# Altium integrated library Dallas Microcontroller 8-Bit.IntLib: 50 symbols (part 2 of 2)
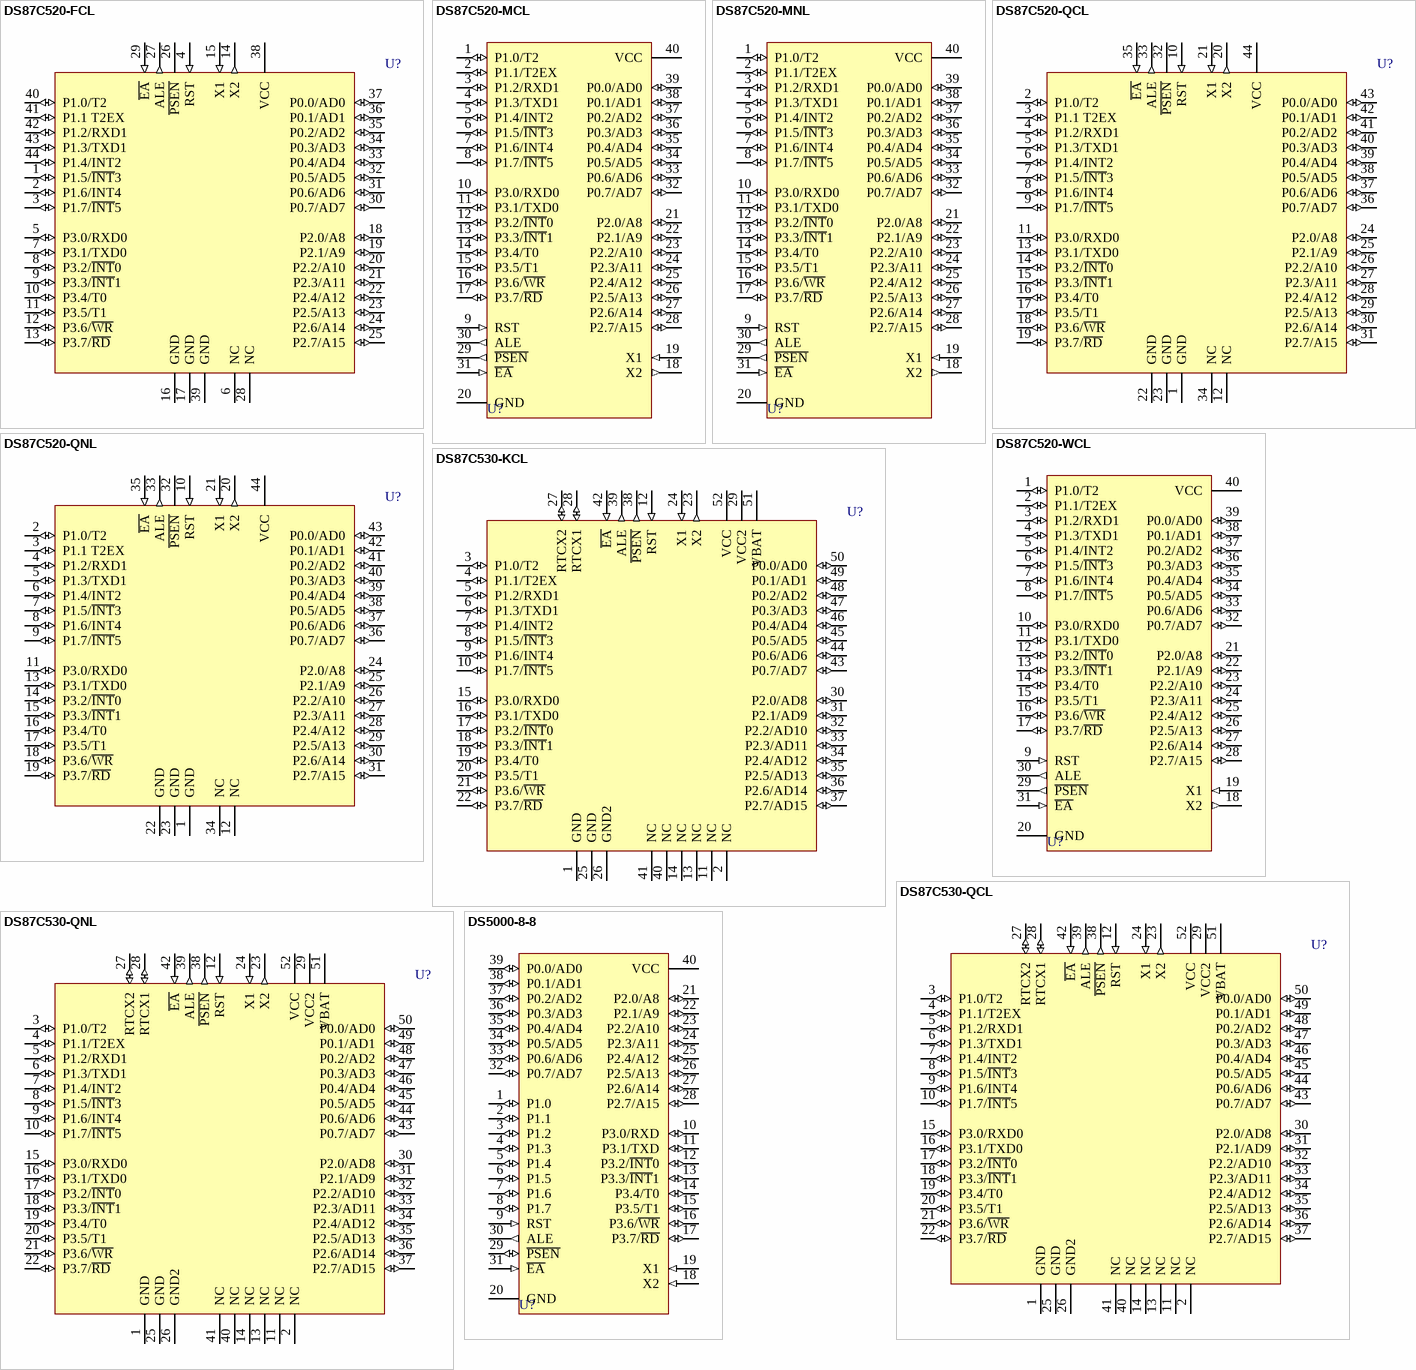
[diagram p5: symbols DS87C520-FCL to DS5000-8-8]

## DS87C530-QCL
designator U?
EPROM/ROM Micro with Real-Time Clock; Note: Pin numbers 2, 11, 13, 14, 40 and 41 are Not Connected (NC); Published: 13-Oct-2000; LatestRevisionDate: 13-Apr-2006; LatestRevisionNote: IPC-7351 Footprint Added.; DatasheetVersion: 8-Jul-1998; PackageVersion: Jul-1998; PackageReference: PLCC52; Publisher: Altium Limited; PackageDescription: 52-Pin Leaded Chip Carrier 1.27 mm Pitch; Code_IPC: PLCC-52; ComponentLink1Description: Manufacturer Link; ComponentLink1URL: http://www.maxim-ic.com/; ComponentLink2Description: Datasheet; ComponentLink2URL: http://pdfserv.maxim-ic.com/en/ds/DS87C530.pdf; ComponentLink3Description: Discontinuation Notice; ComponentLink3URL: http://www.maxim-ic.com/qa/pdfs/non-obsolescence-letter.pdf
footprint PLCC52_N (Leaded Chip Carrier, 52-Leads, Body 19x19mm, Pitch 1.27mm, IPC Medium Density)
footprint PLCC52_L (Leaded Chip Carrier, 52-Leads, Body 19x19mm, Pitch 1.27mm, IPC High Density)
footprint PLCC52_M (Leaded Chip Carrier, 52-Leads, Body 19x19mm, Pitch 1.27mm, IPC Low Density)
3D model DS87C530-PLCC52 (52-Pin Leaded Chip Carrier 1.27 mm Pitch)
pins: 1 GND (power), 2 NC, 3 P1.0/T2 (io), 4 P1.1/T2EX (io), 5 P1.2/RXD1 (io), 6 P1.3/TXD1 (io), 7 P1.4/INT2 (io), 8 P1.5/~{INT}3 (io), 9 P1.6/INT4 (io), 10 P1.7/~{INT}5 (io), 11 NC, 12 RST (in), 13 NC, 14 NC, 15 P3.0/RXD0 (io), 16 P3.1/TXD0 (io), 17 P3.2/~{INT}0 (io), 18 P3.3/~{INT}1 (io), 19 P3.4/T0 (io), 20 P3.5/T1 (io), 21 P3.6/~{WR} (io), 22 P3.7/~{RD} (io), 23 X2 (out), 24 X1 (in), 25 GND (power), 26 GND2 (power), 27 RTCX2 (io), 28 RTCX1 (io), 29 VCC2 (power), 30 P2.0/AD8 (io), 31 P2.1/AD9 (io), 32 P2.2/AD10 (io), 33 P2.3/AD11 (io), 34 P2.4/AD12 (io), 35 P2.5/AD13 (io), 36 P2.6/AD14 (io), 37 P2.7/AD15 (io), 38 ~{PSEN} (out), 39 ALE (out), 40 NC, 41 NC, 42 ~{EA} (in), 43 P0.7/AD7 (io), 44 P0.6/AD6 (io), 45 P0.5/AD5 (io), 46 P0.4/AD4 (io), 47 P0.3/AD3 (io), 48 P0.2/AD2 (io), 49 P0.1/AD1 (io), 50 P0.0/AD0 (io), 51 VBAT (power), 52 VCC (power)

## DS87C530-QNL
designator U?
EPROM/ROM Micro with Real-Time Clock; Note: Pin numbers 2, 11, 13, 14, 40 and 41 are Not Connected (NC); Published: 13-Oct-2000; LatestRevisionDate: 13-Apr-2006; LatestRevisionNote: IPC-7351 Footprint Added.; DatasheetVersion: 8-Jul-1998; PackageVersion: Jul-1998; PackageReference: PLCC52; Publisher: Altium Limited; PackageDescription: 52-Pin Leaded Chip Carrier 1.27 mm Pitch; Code_IPC: PLCC-52; ComponentLink1Description: Manufacturer Link; ComponentLink1URL: http://www.maxim-ic.com/; ComponentLink2Description: Datasheet; ComponentLink2URL: http://pdfserv.maxim-ic.com/en/ds/DS87C530.pdf; ComponentLink3Description: Discontinuation Notice; ComponentLink3URL: http://www.maxim-ic.com/qa/pdfs/non-obsolescence-letter.pdf
footprint PLCC52_N (Leaded Chip Carrier, 52-Leads, Body 19x19mm, Pitch 1.27mm, IPC Medium Density)
footprint PLCC52_L (Leaded Chip Carrier, 52-Leads, Body 19x19mm, Pitch 1.27mm, IPC High Density)
footprint PLCC52_M (Leaded Chip Carrier, 52-Leads, Body 19x19mm, Pitch 1.27mm, IPC Low Density)
3D model DS87C530-PLCC52 (52-Pin Leaded Chip Carrier 1.27 mm Pitch)
pins: 1 GND (power), 2 NC, 3 P1.0/T2 (io), 4 P1.1/T2EX (io), 5 P1.2/RXD1 (io), 6 P1.3/TXD1 (io), 7 P1.4/INT2 (io), 8 P1.5/~{INT}3 (io), 9 P1.6/INT4 (io), 10 P1.7/~{INT}5 (io), 11 NC, 12 RST (in), 13 NC, 14 NC, 15 P3.0/RXD0 (io), 16 P3.1/TXD0 (io), 17 P3.2/~{INT}0 (io), 18 P3.3/~{INT}1 (io), 19 P3.4/T0 (io), 20 P3.5/T1 (io), 21 P3.6/~{WR} (io), 22 P3.7/~{RD} (io), 23 X2 (out), 24 X1 (in), 25 GND (power), 26 GND2 (power), 27 RTCX2 (io), 28 RTCX1 (io), 29 VCC2 (power), 30 P2.0/AD8 (io), 31 P2.1/AD9 (io), 32 P2.2/AD10 (io), 33 P2.3/AD11 (io), 34 P2.4/AD12 (io), 35 P2.5/AD13 (io), 36 P2.6/AD14 (io), 37 P2.7/AD15 (io), 38 ~{PSEN} (out), 39 ALE (out), 40 NC, 41 NC, 42 ~{EA} (in), 43 P0.7/AD7 (io), 44 P0.6/AD6 (io), 45 P0.5/AD5 (io), 46 P0.4/AD4 (io), 47 P0.3/AD3 (io), 48 P0.2/AD2 (io), 49 P0.1/AD1 (io), 50 P0.0/AD0 (io), 51 VBAT (power), 52 VCC (power)

## DS5000-8-8
designator U?
Soft Microcontroller; Published: 13-Oct-2000; LatestRevisionDate: 17-Jul-2002; LatestRevisionNote: PCB footprint, 'DIP-P40/X1.1' replaced; Re-released for DXP Platform.; DatasheetVersion: 21-Apr-1993; PackageReference: ENDIP40A; Publisher: Altium Limited; PackageDescription: DIP; 40 Rectangular Pins; Row Space 15.24 mm; Pitch 2.54 mm; ComponentLink1Description: Manufacturer Link; ComponentLink1URL: http://www.maxim-ic.com/; ComponentLink2Description: Datasheet; ComponentLink2URL: http://pdfserv.maxim-ic.com/en/ds/DS5000T.pdf; ComponentLink3Description: Discontinuation Notice; ComponentLink3URL: http://www.maxim-ic.com/qa/pdfs/non-obsolescence-letter.pdf
footprint ENDIP40A (DIP; 40 Rectangular Pins; Row Space 15.24 mm; Pitch 2.54 mm)
pins: 1 P1.0 (io), 2 P1.1 (io), 3 P1.2 (io), 4 P1.3 (io), 5 P1.4 (io), 6 P1.5 (io), 7 P1.6 (io), 8 P1.7 (io), 9 RST (in), 10 P3.0/RXD (io), 11 P3.1/TXD (io), 12 P3.2/~{INT}0 (io), 13 P3.3/~{INT}1 (io), 14 P3.4/T0 (io), 15 P3.5/T1 (io), 16 P3.6/~{WR} (io), 17 P3.7/~{RD} (io), 18 X2 (in), 19 X1 (in), 20 GND (power), 21 P2.0/A8 (io), 22 P2.1/A9 (io), 23 P2.2/A10 (io), 24 P2.3/A11 (io), 25 P2.4/A12 (io), 26 P2.5/A13 (io), 27 P2.6/A14 (io), 28 P2.7/A15 (io), 29 ~{PSEN} (io), 30 ALE (out), 31 ~{EA} (in), 32 P0.7/AD7 (io), 33 P0.6/AD6 (io), 34 P0.5/AD5 (io), 35 P0.4/AD4 (io), 36 P0.3/AD3 (io), 37 P0.2/AD2 (io), 38 P0.1/AD1 (io), 39 P0.0/AD0 (io), 40 VCC (power)

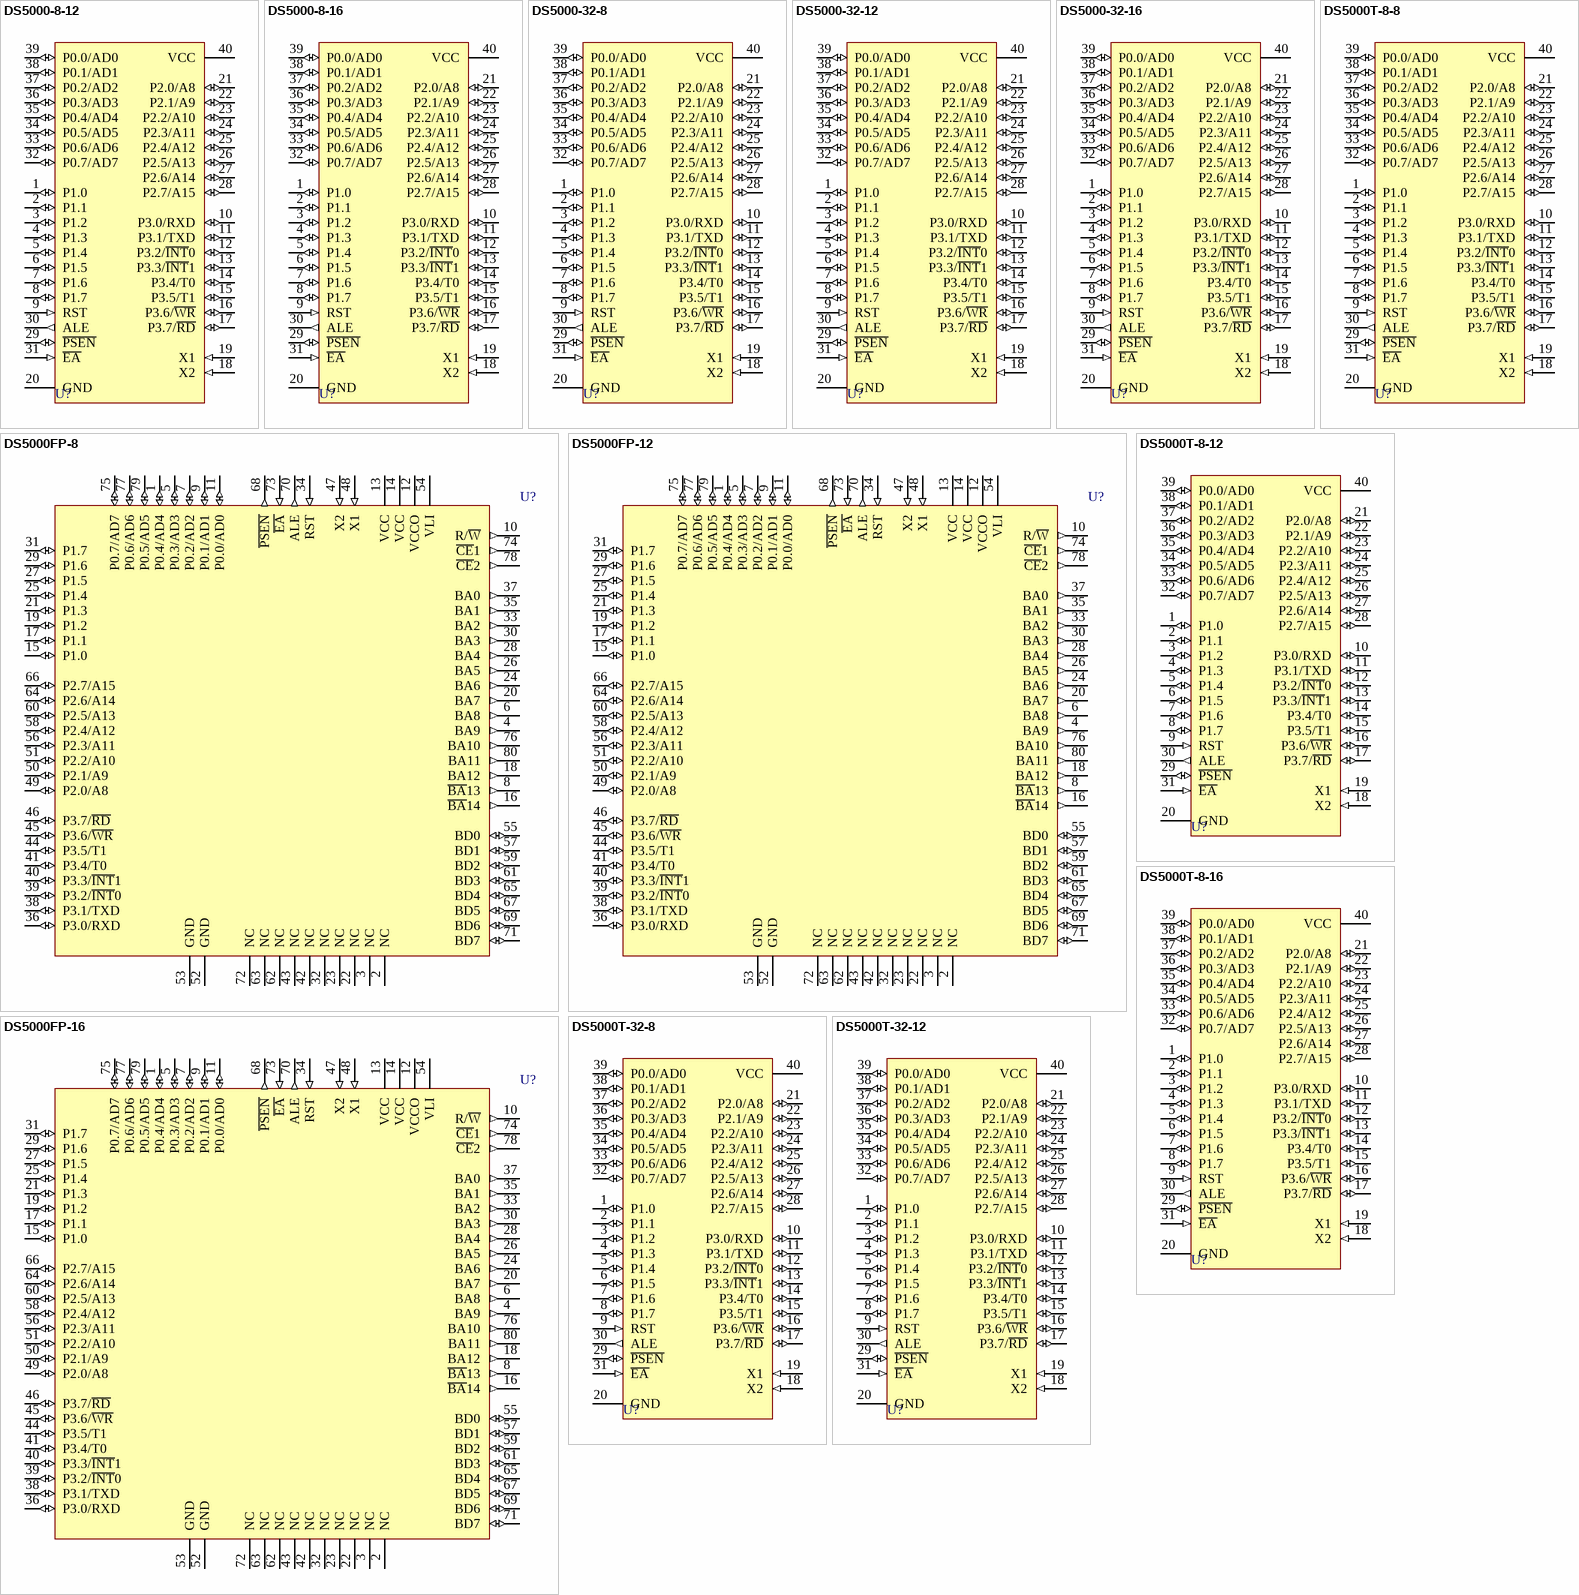
[diagram p3: symbols DS5000-8-12 to DS5000T-32-12]

## DS5000-8-12
designator U?
Soft Microcontroller; Published: 13-Oct-2000; LatestRevisionDate: 17-Jul-2002; LatestRevisionNote: PCB footprint, 'DIP-P40/X1.1' replaced; Re-released for DXP Platform.; DatasheetVersion: 21-Apr-1993; PackageReference: ENDIP40A; Publisher: Altium Limited; PackageDescription: DIP; 40 Rectangular Pins; Row Space 15.24 mm; Pitch 2.54 mm; ComponentLink1Description: Manufacturer Link; ComponentLink1URL: http://www.maxim-ic.com/; ComponentLink2Description: Datasheet; ComponentLink2URL: http://pdfserv.maxim-ic.com/en/ds/DS5000T.pdf; ComponentLink3Description: Discontinuation Notice; ComponentLink3URL: http://www.maxim-ic.com/qa/pdfs/non-obsolescence-letter.pdf
footprint ENDIP40A (DIP; 40 Rectangular Pins; Row Space 15.24 mm; Pitch 2.54 mm)
pins: 1 P1.0 (io), 2 P1.1 (io), 3 P1.2 (io), 4 P1.3 (io), 5 P1.4 (io), 6 P1.5 (io), 7 P1.6 (io), 8 P1.7 (io), 9 RST (in), 10 P3.0/RXD (io), 11 P3.1/TXD (io), 12 P3.2/~{INT}0 (io), 13 P3.3/~{INT}1 (io), 14 P3.4/T0 (io), 15 P3.5/T1 (io), 16 P3.6/~{WR} (io), 17 P3.7/~{RD} (io), 18 X2 (in), 19 X1 (in), 20 GND (power), 21 P2.0/A8 (io), 22 P2.1/A9 (io), 23 P2.2/A10 (io), 24 P2.3/A11 (io), 25 P2.4/A12 (io), 26 P2.5/A13 (io), 27 P2.6/A14 (io), 28 P2.7/A15 (io), 29 ~{PSEN} (io), 30 ALE (out), 31 ~{EA} (in), 32 P0.7/AD7 (io), 33 P0.6/AD6 (io), 34 P0.5/AD5 (io), 35 P0.4/AD4 (io), 36 P0.3/AD3 (io), 37 P0.2/AD2 (io), 38 P0.1/AD1 (io), 39 P0.0/AD0 (io), 40 VCC (power)

## DS5000-8-16
designator U?
Soft Microcontroller; Published: 13-Oct-2000; LatestRevisionDate: 17-Jul-2002; LatestRevisionNote: PCB footprint, 'DIP-P40/X1.1' replaced; Re-released for DXP Platform.; DatasheetVersion: 21-Apr-1993; PackageReference: ENDIP40A; Publisher: Altium Limited; PackageDescription: DIP; 40 Rectangular Pins; Row Space 15.24 mm; Pitch 2.54 mm; ComponentLink1Description: Manufacturer Link; ComponentLink1URL: http://www.maxim-ic.com/; ComponentLink2Description: Datasheet; ComponentLink2URL: http://pdfserv.maxim-ic.com/en/ds/DS5000T.pdf; ComponentLink3Description: Discontinuation Notice; ComponentLink3URL: http://www.maxim-ic.com/qa/pdfs/non-obsolescence-letter.pdf
footprint ENDIP40A (DIP; 40 Rectangular Pins; Row Space 15.24 mm; Pitch 2.54 mm)
pins: 1 P1.0 (io), 2 P1.1 (io), 3 P1.2 (io), 4 P1.3 (io), 5 P1.4 (io), 6 P1.5 (io), 7 P1.6 (io), 8 P1.7 (io), 9 RST (in), 10 P3.0/RXD (io), 11 P3.1/TXD (io), 12 P3.2/~{INT}0 (io), 13 P3.3/~{INT}1 (io), 14 P3.4/T0 (io), 15 P3.5/T1 (io), 16 P3.6/~{WR} (io), 17 P3.7/~{RD} (io), 18 X2 (in), 19 X1 (in), 20 GND (power), 21 P2.0/A8 (io), 22 P2.1/A9 (io), 23 P2.2/A10 (io), 24 P2.3/A11 (io), 25 P2.4/A12 (io), 26 P2.5/A13 (io), 27 P2.6/A14 (io), 28 P2.7/A15 (io), 29 ~{PSEN} (io), 30 ALE (out), 31 ~{EA} (in), 32 P0.7/AD7 (io), 33 P0.6/AD6 (io), 34 P0.5/AD5 (io), 35 P0.4/AD4 (io), 36 P0.3/AD3 (io), 37 P0.2/AD2 (io), 38 P0.1/AD1 (io), 39 P0.0/AD0 (io), 40 VCC (power)

## DS5000-32-8
designator U?
Soft Microcontroller; Published: 13-Oct-2000; LatestRevisionDate: 17-Jul-2002; LatestRevisionNote: PCB footprint, 'DIP-P40/X1.1' replaced; Re-released for DXP Platform.; DatasheetVersion: 21-Apr-1993; PackageReference: ENDIP40A; Publisher: Altium Limited; PackageDescription: DIP; 40 Rectangular Pins; Row Space 15.24 mm; Pitch 2.54 mm; ComponentLink1Description: Manufacturer Link; ComponentLink1URL: http://www.maxim-ic.com/; ComponentLink2Description: Datasheet; ComponentLink2URL: http://pdfserv.maxim-ic.com/en/ds/DS5000T.pdf; ComponentLink3Description: Discontinuation Notice; ComponentLink3URL: http://www.maxim-ic.com/qa/pdfs/non-obsolescence-letter.pdf
footprint ENDIP40A (DIP; 40 Rectangular Pins; Row Space 15.24 mm; Pitch 2.54 mm)
pins: 1 P1.0 (io), 2 P1.1 (io), 3 P1.2 (io), 4 P1.3 (io), 5 P1.4 (io), 6 P1.5 (io), 7 P1.6 (io), 8 P1.7 (io), 9 RST (in), 10 P3.0/RXD (io), 11 P3.1/TXD (io), 12 P3.2/~{INT}0 (io), 13 P3.3/~{INT}1 (io), 14 P3.4/T0 (io), 15 P3.5/T1 (io), 16 P3.6/~{WR} (io), 17 P3.7/~{RD} (io), 18 X2 (in), 19 X1 (in), 20 GND (power), 21 P2.0/A8 (io), 22 P2.1/A9 (io), 23 P2.2/A10 (io), 24 P2.3/A11 (io), 25 P2.4/A12 (io), 26 P2.5/A13 (io), 27 P2.6/A14 (io), 28 P2.7/A15 (io), 29 ~{PSEN} (io), 30 ALE (out), 31 ~{EA} (in), 32 P0.7/AD7 (io), 33 P0.6/AD6 (io), 34 P0.5/AD5 (io), 35 P0.4/AD4 (io), 36 P0.3/AD3 (io), 37 P0.2/AD2 (io), 38 P0.1/AD1 (io), 39 P0.0/AD0 (io), 40 VCC (power)

## DS5000-32-12
designator U?
Soft Microcontroller; Published: 13-Oct-2000; LatestRevisionDate: 17-Jul-2002; LatestRevisionNote: PCB footprint, 'DIP-P40/X1.1' replaced; Re-released for DXP Platform.; DatasheetVersion: 21-Apr-1993; PackageReference: ENDIP40A; Publisher: Altium Limited; PackageDescription: DIP; 40 Rectangular Pins; Row Space 15.24 mm; Pitch 2.54 mm; ComponentLink1Description: Manufacturer Link; ComponentLink1URL: http://www.maxim-ic.com/; ComponentLink2Description: Datasheet; ComponentLink2URL: http://pdfserv.maxim-ic.com/en/ds/DS5000T.pdf; ComponentLink3Description: Discontinuation Notice; ComponentLink3URL: http://www.maxim-ic.com/qa/pdfs/non-obsolescence-letter.pdf
footprint ENDIP40A (DIP; 40 Rectangular Pins; Row Space 15.24 mm; Pitch 2.54 mm)
pins: 1 P1.0 (io), 2 P1.1 (io), 3 P1.2 (io), 4 P1.3 (io), 5 P1.4 (io), 6 P1.5 (io), 7 P1.6 (io), 8 P1.7 (io), 9 RST (in), 10 P3.0/RXD (io), 11 P3.1/TXD (io), 12 P3.2/~{INT}0 (io), 13 P3.3/~{INT}1 (io), 14 P3.4/T0 (io), 15 P3.5/T1 (io), 16 P3.6/~{WR} (io), 17 P3.7/~{RD} (io), 18 X2 (in), 19 X1 (in), 20 GND (power), 21 P2.0/A8 (io), 22 P2.1/A9 (io), 23 P2.2/A10 (io), 24 P2.3/A11 (io), 25 P2.4/A12 (io), 26 P2.5/A13 (io), 27 P2.6/A14 (io), 28 P2.7/A15 (io), 29 ~{PSEN} (io), 30 ALE (out), 31 ~{EA} (in), 32 P0.7/AD7 (io), 33 P0.6/AD6 (io), 34 P0.5/AD5 (io), 35 P0.4/AD4 (io), 36 P0.3/AD3 (io), 37 P0.2/AD2 (io), 38 P0.1/AD1 (io), 39 P0.0/AD0 (io), 40 VCC (power)

## DS5000-32-16
designator U?
Soft Microcontroller; Published: 13-Oct-2000; LatestRevisionDate: 17-Jul-2002; LatestRevisionNote: PCB footprint, 'DIP-P40/X1.1' replaced; Re-released for DXP Platform.; DatasheetVersion: 21-Apr-1993; PackageReference: ENDIP40A; Publisher: Altium Limited; PackageDescription: DIP; 40 Rectangular Pins; Row Space 15.24 mm; Pitch 2.54 mm; ComponentLink1Description: Manufacturer Link; ComponentLink1URL: http://www.maxim-ic.com/; ComponentLink2Description: Datasheet; ComponentLink2URL: http://pdfserv.maxim-ic.com/en/ds/DS5000T.pdf; ComponentLink3Description: Discontinuation Notice; ComponentLink3URL: http://www.maxim-ic.com/qa/pdfs/non-obsolescence-letter.pdf
footprint ENDIP40A (DIP; 40 Rectangular Pins; Row Space 15.24 mm; Pitch 2.54 mm)
pins: 1 P1.0 (io), 2 P1.1 (io), 3 P1.2 (io), 4 P1.3 (io), 5 P1.4 (io), 6 P1.5 (io), 7 P1.6 (io), 8 P1.7 (io), 9 RST (in), 10 P3.0/RXD (io), 11 P3.1/TXD (io), 12 P3.2/~{INT}0 (io), 13 P3.3/~{INT}1 (io), 14 P3.4/T0 (io), 15 P3.5/T1 (io), 16 P3.6/~{WR} (io), 17 P3.7/~{RD} (io), 18 X2 (in), 19 X1 (in), 20 GND (power), 21 P2.0/A8 (io), 22 P2.1/A9 (io), 23 P2.2/A10 (io), 24 P2.3/A11 (io), 25 P2.4/A12 (io), 26 P2.5/A13 (io), 27 P2.6/A14 (io), 28 P2.7/A15 (io), 29 ~{PSEN} (io), 30 ALE (out), 31 ~{EA} (in), 32 P0.7/AD7 (io), 33 P0.6/AD6 (io), 34 P0.5/AD5 (io), 35 P0.4/AD4 (io), 36 P0.3/AD3 (io), 37 P0.2/AD2 (io), 38 P0.1/AD1 (io), 39 P0.0/AD0 (io), 40 VCC (power)

## DS5000FP-8
designator U?
Soft Microcontroller Chip; Note: Pin numbers 2, 3, 22, 23, 32, 42, 43, 62, 63 and 72 are Not Connected (NC); Published: 13-Oct-2000; LatestRevisionDate: 13-Apr-2006; LatestRevisionNote: IPC-7351 Footprint Added.; DatasheetVersion: 18-Feb-1993; PackageVersion: Feb-1993; PackageReference: QFP80A; Publisher: Altium Limited; PackageDescription: 80-Pin Quad Flat Pack Rectangular 0.8 mm Pitch; ComponentLink1Description: Manufacturer Link; ComponentLink1URL: http://www.maxim-ic.com/; ComponentLink2Description: Datasheet; ComponentLink2URL: http://pdfserv.maxim-ic.com/en/ds/DS5000FP.pdf; ComponentLink3Description: Discontinuation Notice; ComponentLink3URL: http://www.maxim-ic.com/qa/pdfs/non-obsolescence-letter.pdf
footprint QFP80A_N (QFP, 80-Leads, Body 20x14mm, Pitch 0.8mm, IPC Medium Density)
footprint QFP80A_L (QFP, 80-Leads, Body 20x14mm, Pitch 0.8mm, IPC High Density)
footprint QFP80A_M (QFP, 80-Leads, Body 20x14mm, Pitch 0.8mm, IPC Low Density)
3D model DS5000-QFP80A (80-Pin Quad Flat Pack Rectangular 0.8 mm Pitch)
pins: 1 P0.4/AD4 (io), 2 NC, 3 NC, 4 BA9 (out), 5 P0.3/AD3 (io), 6 BA8 (out), 7 P0.2/AD2 (io), 8 ~{BA}13 (out), 9 P0.1/AD1 (io), 10 R/~{W} (out), 11 P0.0/AD0 (io), 12 VCCO (power), 13 VCC (power), 14 VCC (power), 15 P1.0 (io), 16 ~{BA}14 (out), 17 P1.1 (io), 18 BA12 (out), 19 P1.2 (io), 20 BA7 (out), 21 P1.3 (io), 22 NC, 23 NC, 24 BA6 (out), 25 P1.4 (io), 26 BA5 (out), 27 P1.5 (io), 28 BA4 (out), 29 P1.6 (io), 30 BA3 (out), 31 P1.7 (io), 32 NC, 33 BA2 (out), 34 RST (in), 35 BA1 (out), 36 P3.0/RXD (io), 37 BA0 (out), 38 P3.1/TXD (io), 39 P3.2/~{INT}0 (io), 40 P3.3/~{INT}1 (io), 41 P3.4/T0 (io), 42 NC, 43 NC, 44 P3.5/T1 (io), 45 P3.6/~{WR} (io), 46 P3.7/~{RD} (io), 47 X2 (in), 48 X1 (in), 49 P2.0/A8 (io), 50 P2.1/A9 (io), 51 P2.2/A10 (io), 52 GND (power), 53 GND (power), 54 VLI (power), 55 BD0 (io), 56 P2.3/A11 (io), 57 BD1 (io), 58 P2.4/A12 (io), 59 BD2 (io), 60 P2.5/A13 (io), 61 BD3 (io), 62 NC, 63 NC, 64 P2.6/A14 (io), 65 BD4 (io), 66 P2.7/A15 (io), 67 BD5 (io), 68 ~{PSEN} (out), 69 BD6 (io), 70 ALE (out), 71 BD7 (io), 72 NC, 73 ~{EA} (in), 74 ~{CE}1 (out), 75 P0.7/AD7 (io), 76 BA10 (out), 77 P0.6/AD6 (io), 78 ~{CE}2 (out), 79 P0.5/AD5 (io), 80 BA11 (out)

## DS5000FP-12
designator U?
Soft Microcontroller Chip; Note: Pin numbers 2, 3, 22, 23, 32, 42, 43, 62, 63 and 72 are Not Connected (NC); Published: 13-Oct-2000; LatestRevisionDate: 13-Apr-2006; LatestRevisionNote: IPC-7351 Footprint Added.; DatasheetVersion: 18-Feb-1993; PackageVersion: Feb-1993; PackageReference: QFP80A; Publisher: Altium Limited; PackageDescription: 80-Pin Quad Flat Pack Rectangular 0.8 mm Pitch; ComponentLink1Description: Manufacturer Link; ComponentLink1URL: http://www.maxim-ic.com/; ComponentLink2Description: Datasheet; ComponentLink2URL: http://pdfserv.maxim-ic.com/en/ds/DS5000FP.pdf; ComponentLink3Description: Discontinuation Notice; ComponentLink3URL: http://www.maxim-ic.com/qa/pdfs/non-obsolescence-letter.pdf
footprint QFP80A_N (QFP, 80-Leads, Body 20x14mm, Pitch 0.8mm, IPC Medium Density)
footprint QFP80A_L (QFP, 80-Leads, Body 20x14mm, Pitch 0.8mm, IPC High Density)
footprint QFP80A_M (QFP, 80-Leads, Body 20x14mm, Pitch 0.8mm, IPC Low Density)
3D model DS5000-QFP80A (80-Pin Quad Flat Pack Rectangular 0.8 mm Pitch)
pins: 1 P0.4/AD4 (io), 2 NC, 3 NC, 4 BA9 (out), 5 P0.3/AD3 (io), 6 BA8 (out), 7 P0.2/AD2 (io), 8 ~{BA}13 (out), 9 P0.1/AD1 (io), 10 R/~{W} (out), 11 P0.0/AD0 (io), 12 VCCO (power), 13 VCC (power), 14 VCC (power), 15 P1.0 (io), 16 ~{BA}14 (out), 17 P1.1 (io), 18 BA12 (out), 19 P1.2 (io), 20 BA7 (out), 21 P1.3 (io), 22 NC, 23 NC, 24 BA6 (out), 25 P1.4 (io), 26 BA5 (out), 27 P1.5 (io), 28 BA4 (out), 29 P1.6 (io), 30 BA3 (out), 31 P1.7 (io), 32 NC, 33 BA2 (out), 34 RST (in), 35 BA1 (out), 36 P3.0/RXD (io), 37 BA0 (out), 38 P3.1/TXD (io), 39 P3.2/~{INT}0 (io), 40 P3.3/~{INT}1 (io), 41 P3.4/T0 (io), 42 NC, 43 NC, 44 P3.5/T1 (io), 45 P3.6/~{WR} (io), 46 P3.7/~{RD} (io), 47 X2 (in), 48 X1 (in), 49 P2.0/A8 (io), 50 P2.1/A9 (io), 51 P2.2/A10 (io), 52 GND (power), 53 GND (power), 54 VLI (power), 55 BD0 (io), 56 P2.3/A11 (io), 57 BD1 (io), 58 P2.4/A12 (io), 59 BD2 (io), 60 P2.5/A13 (io), 61 BD3 (io), 62 NC, 63 NC, 64 P2.6/A14 (io), 65 BD4 (io), 66 P2.7/A15 (io), 67 BD5 (io), 68 ~{PSEN} (out), 69 BD6 (io), 70 ALE (out), 71 BD7 (io), 72 NC, 73 ~{EA} (in), 74 ~{CE}1 (out), 75 P0.7/AD7 (io), 76 BA10 (out), 77 P0.6/AD6 (io), 78 ~{CE}2 (out), 79 P0.5/AD5 (io), 80 BA11 (out)

## DS5000FP-16
designator U?
Soft Microcontroller Chip; Note: Pin numbers 2, 3, 22, 23, 32, 42, 43, 62, 63 and 72 are Not Connected (NC); Published: 13-Oct-2000; LatestRevisionDate: 13-Apr-2006; LatestRevisionNote: IPC-7351 Footprint Added.; DatasheetVersion: 18-Feb-1993; PackageVersion: Feb-1993; PackageReference: QFP80A; Publisher: Altium Limited; PackageDescription: 80-Pin Quad Flat Pack Rectangular 0.8 mm Pitch; ComponentLink1Description: Manufacturer Link; ComponentLink1URL: http://www.maxim-ic.com/; ComponentLink2Description: Datasheet; ComponentLink2URL: http://pdfserv.maxim-ic.com/en/ds/DS5000FP.pdf; ComponentLink3Description: Discontinuation Notice; ComponentLink3URL: http://www.maxim-ic.com/qa/pdfs/non-obsolescence-letter.pdf
footprint QFP80A_N (QFP, 80-Leads, Body 20x14mm, Pitch 0.8mm, IPC Medium Density)
footprint QFP80A_L (QFP, 80-Leads, Body 20x14mm, Pitch 0.8mm, IPC High Density)
footprint QFP80A_M (QFP, 80-Leads, Body 20x14mm, Pitch 0.8mm, IPC Low Density)
3D model DS5000-QFP80A (80-Pin Quad Flat Pack Rectangular 0.8 mm Pitch)
pins: 1 P0.4/AD4 (io), 2 NC, 3 NC, 4 BA9 (out), 5 P0.3/AD3 (io), 6 BA8 (out), 7 P0.2/AD2 (io), 8 ~{BA}13 (out), 9 P0.1/AD1 (io), 10 R/~{W} (out), 11 P0.0/AD0 (io), 12 VCCO (power), 13 VCC (power), 14 VCC (power), 15 P1.0 (io), 16 ~{BA}14 (out), 17 P1.1 (io), 18 BA12 (out), 19 P1.2 (io), 20 BA7 (out), 21 P1.3 (io), 22 NC, 23 NC, 24 BA6 (out), 25 P1.4 (io), 26 BA5 (out), 27 P1.5 (io), 28 BA4 (out), 29 P1.6 (io), 30 BA3 (out), 31 P1.7 (io), 32 NC, 33 BA2 (out), 34 RST (in), 35 BA1 (out), 36 P3.0/RXD (io), 37 BA0 (out), 38 P3.1/TXD (io), 39 P3.2/~{INT}0 (io), 40 P3.3/~{INT}1 (io), 41 P3.4/T0 (io), 42 NC, 43 NC, 44 P3.5/T1 (io), 45 P3.6/~{WR} (io), 46 P3.7/~{RD} (io), 47 X2 (in), 48 X1 (in), 49 P2.0/A8 (io), 50 P2.1/A9 (io), 51 P2.2/A10 (io), 52 GND (power), 53 GND (power), 54 VLI (power), 55 BD0 (io), 56 P2.3/A11 (io), 57 BD1 (io), 58 P2.4/A12 (io), 59 BD2 (io), 60 P2.5/A13 (io), 61 BD3 (io), 62 NC, 63 NC, 64 P2.6/A14 (io), 65 BD4 (io), 66 P2.7/A15 (io), 67 BD5 (io), 68 ~{PSEN} (out), 69 BD6 (io), 70 ALE (out), 71 BD7 (io), 72 NC, 73 ~{EA} (in), 74 ~{CE}1 (out), 75 P0.7/AD7 (io), 76 BA10 (out), 77 P0.6/AD6 (io), 78 ~{CE}2 (out), 79 P0.5/AD5 (io), 80 BA11 (out)

## DS5000T-8-8
designator U?
Soft Microcontroller; Published: 13-Oct-2000; LatestRevisionDate: 17-Jul-2002; LatestRevisionNote: PCB footprint, 'DIP-P40/X1.1' replaced; Re-released for DXP Platform.; DatasheetVersion: 21-Apr-1993; PackageReference: ENDIP40A; Publisher: Altium Limited; PackageDescription: DIP; 40 Rectangular Pins; Row Space 15.24 mm; Pitch 2.54 mm; ComponentLink1Description: Manufacturer Link; ComponentLink1URL: http://www.maxim-ic.com/; ComponentLink2Description: Datasheet; ComponentLink2URL: http://pdfserv.maxim-ic.com/en/ds/DS5000T.pdf; ComponentLink3Description: Discontinuation Notice; ComponentLink3URL: http://www.maxim-ic.com/qa/pdfs/non-obsolescence-letter.pdf
footprint ENDIP40A (DIP; 40 Rectangular Pins; Row Space 15.24 mm; Pitch 2.54 mm)
pins: 1 P1.0 (io), 2 P1.1 (io), 3 P1.2 (io), 4 P1.3 (io), 5 P1.4 (io), 6 P1.5 (io), 7 P1.6 (io), 8 P1.7 (io), 9 RST (in), 10 P3.0/RXD (io), 11 P3.1/TXD (io), 12 P3.2/~{INT}0 (io), 13 P3.3/~{INT}1 (io), 14 P3.4/T0 (io), 15 P3.5/T1 (io), 16 P3.6/~{WR} (io), 17 P3.7/~{RD} (io), 18 X2 (in), 19 X1 (in), 20 GND (power), 21 P2.0/A8 (io), 22 P2.1/A9 (io), 23 P2.2/A10 (io), 24 P2.3/A11 (io), 25 P2.4/A12 (io), 26 P2.5/A13 (io), 27 P2.6/A14 (io), 28 P2.7/A15 (io), 29 ~{PSEN} (io), 30 ALE (out), 31 ~{EA} (in), 32 P0.7/AD7 (io), 33 P0.6/AD6 (io), 34 P0.5/AD5 (io), 35 P0.4/AD4 (io), 36 P0.3/AD3 (io), 37 P0.2/AD2 (io), 38 P0.1/AD1 (io), 39 P0.0/AD0 (io), 40 VCC (power)

## DS5000T-8-12
designator U?
Soft Microcontroller; Published: 13-Oct-2000; LatestRevisionDate: 17-Jul-2002; LatestRevisionNote: PCB footprint, 'DIP-P40/X1.1' replaced; Re-released for DXP Platform.; DatasheetVersion: 21-Apr-1993; PackageReference: ENDIP40A; Publisher: Altium Limited; PackageDescription: DIP; 40 Rectangular Pins; Row Space 15.24 mm; Pitch 2.54 mm; ComponentLink1Description: Manufacturer Link; ComponentLink1URL: http://www.maxim-ic.com/; ComponentLink2Description: Datasheet; ComponentLink2URL: http://pdfserv.maxim-ic.com/en/ds/DS5000T.pdf; ComponentLink3Description: Discontinuation Notice; ComponentLink3URL: http://www.maxim-ic.com/qa/pdfs/non-obsolescence-letter.pdf
footprint ENDIP40A (DIP; 40 Rectangular Pins; Row Space 15.24 mm; Pitch 2.54 mm)
pins: 1 P1.0 (io), 2 P1.1 (io), 3 P1.2 (io), 4 P1.3 (io), 5 P1.4 (io), 6 P1.5 (io), 7 P1.6 (io), 8 P1.7 (io), 9 RST (in), 10 P3.0/RXD (io), 11 P3.1/TXD (io), 12 P3.2/~{INT}0 (io), 13 P3.3/~{INT}1 (io), 14 P3.4/T0 (io), 15 P3.5/T1 (io), 16 P3.6/~{WR} (io), 17 P3.7/~{RD} (io), 18 X2 (in), 19 X1 (in), 20 GND (power), 21 P2.0/A8 (io), 22 P2.1/A9 (io), 23 P2.2/A10 (io), 24 P2.3/A11 (io), 25 P2.4/A12 (io), 26 P2.5/A13 (io), 27 P2.6/A14 (io), 28 P2.7/A15 (io), 29 ~{PSEN} (io), 30 ALE (out), 31 ~{EA} (in), 32 P0.7/AD7 (io), 33 P0.6/AD6 (io), 34 P0.5/AD5 (io), 35 P0.4/AD4 (io), 36 P0.3/AD3 (io), 37 P0.2/AD2 (io), 38 P0.1/AD1 (io), 39 P0.0/AD0 (io), 40 VCC (power)

## DS5000T-8-16
designator U?
Soft Microcontroller; Published: 13-Oct-2000; LatestRevisionDate: 17-Jul-2002; LatestRevisionNote: PCB footprint, 'DIP-P40/X1.1' replaced; Re-released for DXP Platform.; DatasheetVersion: 21-Apr-1993; PackageReference: ENDIP40A; Publisher: Altium Limited; PackageDescription: DIP; 40 Rectangular Pins; Row Space 15.24 mm; Pitch 2.54 mm; ComponentLink1Description: Manufacturer Link; ComponentLink1URL: http://www.maxim-ic.com/; ComponentLink2Description: Datasheet; ComponentLink2URL: http://pdfserv.maxim-ic.com/en/ds/DS5000T.pdf; ComponentLink3Description: Discontinuation Notice; ComponentLink3URL: http://www.maxim-ic.com/qa/pdfs/non-obsolescence-letter.pdf
footprint ENDIP40A (DIP; 40 Rectangular Pins; Row Space 15.24 mm; Pitch 2.54 mm)
pins: 1 P1.0 (io), 2 P1.1 (io), 3 P1.2 (io), 4 P1.3 (io), 5 P1.4 (io), 6 P1.5 (io), 7 P1.6 (io), 8 P1.7 (io), 9 RST (in), 10 P3.0/RXD (io), 11 P3.1/TXD (io), 12 P3.2/~{INT}0 (io), 13 P3.3/~{INT}1 (io), 14 P3.4/T0 (io), 15 P3.5/T1 (io), 16 P3.6/~{WR} (io), 17 P3.7/~{RD} (io), 18 X2 (in), 19 X1 (in), 20 GND (power), 21 P2.0/A8 (io), 22 P2.1/A9 (io), 23 P2.2/A10 (io), 24 P2.3/A11 (io), 25 P2.4/A12 (io), 26 P2.5/A13 (io), 27 P2.6/A14 (io), 28 P2.7/A15 (io), 29 ~{PSEN} (io), 30 ALE (out), 31 ~{EA} (in), 32 P0.7/AD7 (io), 33 P0.6/AD6 (io), 34 P0.5/AD5 (io), 35 P0.4/AD4 (io), 36 P0.3/AD3 (io), 37 P0.2/AD2 (io), 38 P0.1/AD1 (io), 39 P0.0/AD0 (io), 40 VCC (power)

## DS5000T-32-8
designator U?
Soft Microcontroller; Published: 13-Oct-2000; LatestRevisionDate: 17-Jul-2002; LatestRevisionNote: PCB footprint, 'DIP-P40/X1.1' replaced; Re-released for DXP Platform.; DatasheetVersion: 21-Apr-1993; PackageReference: ENDIP40A; Publisher: Altium Limited; PackageDescription: DIP; 40 Rectangular Pins; Row Space 15.24 mm; Pitch 2.54 mm; ComponentLink1Description: Manufacturer Link; ComponentLink1URL: http://www.maxim-ic.com/; ComponentLink2Description: Datasheet; ComponentLink2URL: http://pdfserv.maxim-ic.com/en/ds/DS5000T.pdf; ComponentLink3Description: Discontinuation Notice; ComponentLink3URL: http://www.maxim-ic.com/qa/pdfs/non-obsolescence-letter.pdf
footprint ENDIP40A (DIP; 40 Rectangular Pins; Row Space 15.24 mm; Pitch 2.54 mm)
pins: 1 P1.0 (io), 2 P1.1 (io), 3 P1.2 (io), 4 P1.3 (io), 5 P1.4 (io), 6 P1.5 (io), 7 P1.6 (io), 8 P1.7 (io), 9 RST (in), 10 P3.0/RXD (io), 11 P3.1/TXD (io), 12 P3.2/~{INT}0 (io), 13 P3.3/~{INT}1 (io), 14 P3.4/T0 (io), 15 P3.5/T1 (io), 16 P3.6/~{WR} (io), 17 P3.7/~{RD} (io), 18 X2 (in), 19 X1 (in), 20 GND (power), 21 P2.0/A8 (io), 22 P2.1/A9 (io), 23 P2.2/A10 (io), 24 P2.3/A11 (io), 25 P2.4/A12 (io), 26 P2.5/A13 (io), 27 P2.6/A14 (io), 28 P2.7/A15 (io), 29 ~{PSEN} (io), 30 ALE (out), 31 ~{EA} (in), 32 P0.7/AD7 (io), 33 P0.6/AD6 (io), 34 P0.5/AD5 (io), 35 P0.4/AD4 (io), 36 P0.3/AD3 (io), 37 P0.2/AD2 (io), 38 P0.1/AD1 (io), 39 P0.0/AD0 (io), 40 VCC (power)

## DS5000T-32-12
designator U?
Soft Microcontroller; Published: 13-Oct-2000; LatestRevisionDate: 17-Jul-2002; LatestRevisionNote: PCB footprint, 'DIP-P40/X1.1' replaced; Re-released for DXP Platform.; DatasheetVersion: 21-Apr-1993; PackageReference: ENDIP40A; Publisher: Altium Limited; PackageDescription: DIP; 40 Rectangular Pins; Row Space 15.24 mm; Pitch 2.54 mm; ComponentLink1Description: Manufacturer Link; ComponentLink1URL: http://www.maxim-ic.com/; ComponentLink2Description: Datasheet; ComponentLink2URL: http://pdfserv.maxim-ic.com/en/ds/DS5000T.pdf; ComponentLink3Description: Discontinuation Notice; ComponentLink3URL: http://www.maxim-ic.com/qa/pdfs/non-obsolescence-letter.pdf
footprint ENDIP40A (DIP; 40 Rectangular Pins; Row Space 15.24 mm; Pitch 2.54 mm)
pins: 1 P1.0 (io), 2 P1.1 (io), 3 P1.2 (io), 4 P1.3 (io), 5 P1.4 (io), 6 P1.5 (io), 7 P1.6 (io), 8 P1.7 (io), 9 RST (in), 10 P3.0/RXD (io), 11 P3.1/TXD (io), 12 P3.2/~{INT}0 (io), 13 P3.3/~{INT}1 (io), 14 P3.4/T0 (io), 15 P3.5/T1 (io), 16 P3.6/~{WR} (io), 17 P3.7/~{RD} (io), 18 X2 (in), 19 X1 (in), 20 GND (power), 21 P2.0/A8 (io), 22 P2.1/A9 (io), 23 P2.2/A10 (io), 24 P2.3/A11 (io), 25 P2.4/A12 (io), 26 P2.5/A13 (io), 27 P2.6/A14 (io), 28 P2.7/A15 (io), 29 ~{PSEN} (io), 30 ALE (out), 31 ~{EA} (in), 32 P0.7/AD7 (io), 33 P0.6/AD6 (io), 34 P0.5/AD5 (io), 35 P0.4/AD4 (io), 36 P0.3/AD3 (io), 37 P0.2/AD2 (io), 38 P0.1/AD1 (io), 39 P0.0/AD0 (io), 40 VCC (power)

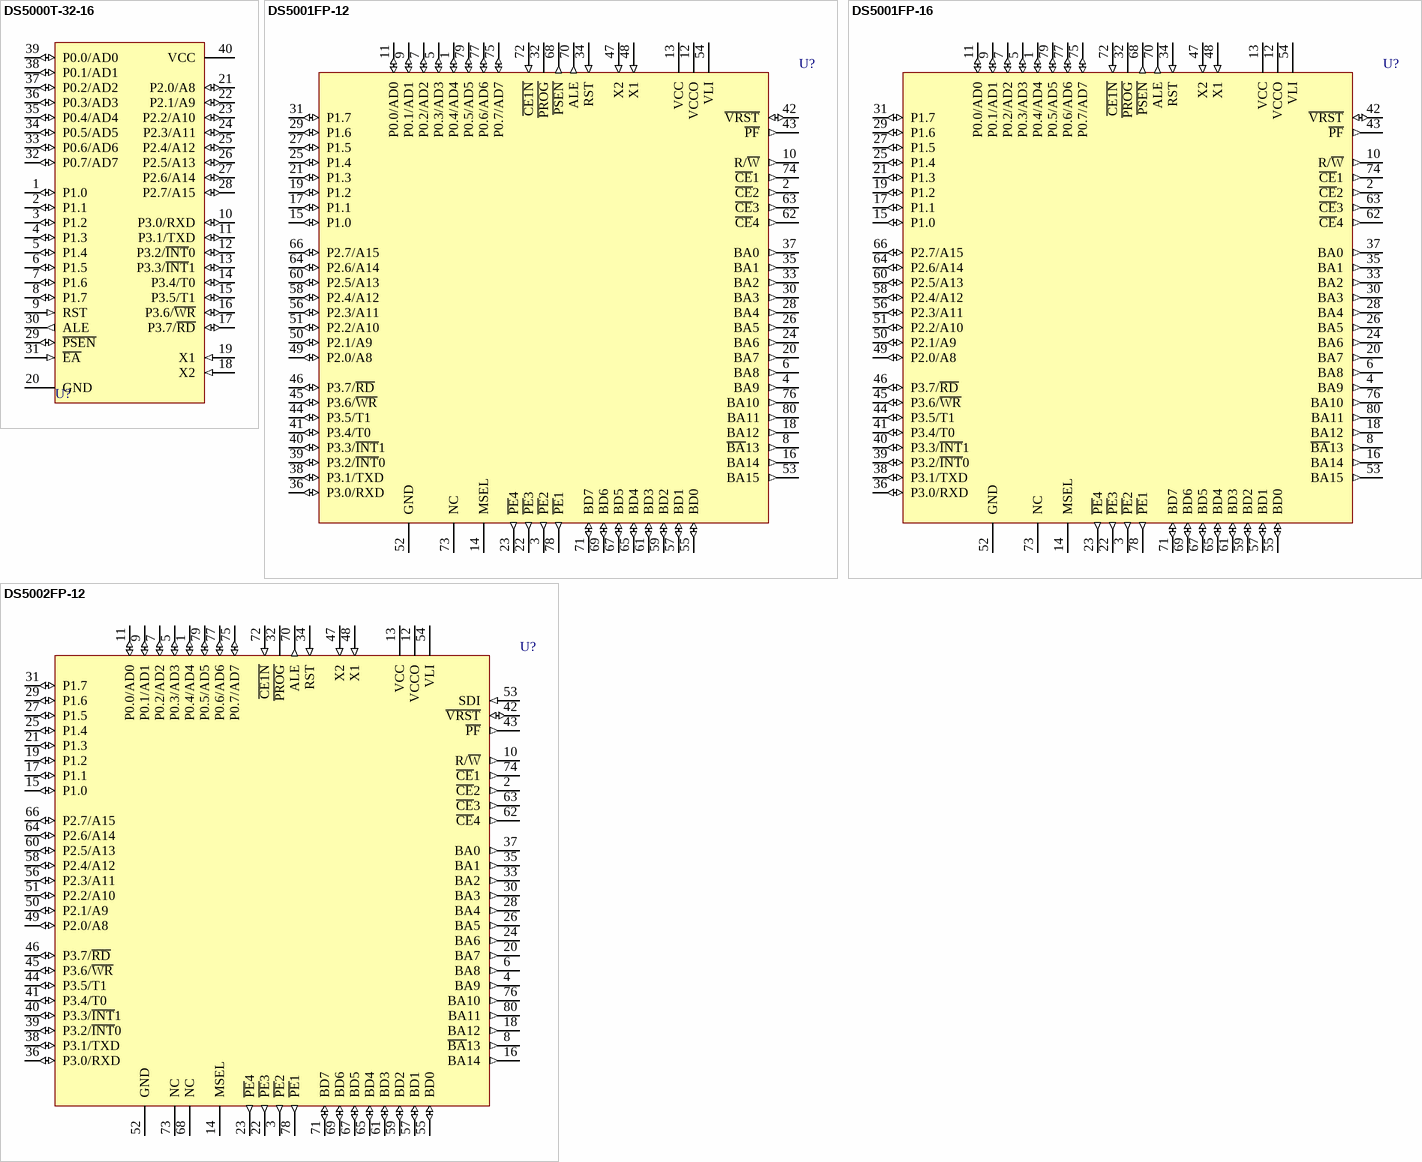
[diagram p4: symbols DS5000T-32-16 to DS5002FP-12]

## DS5000T-32-16
designator U?
Soft Microcontroller; Published: 13-Oct-2000; LatestRevisionDate: 17-Jul-2002; LatestRevisionNote: PCB footprint, 'DIP-P40/X1.1' replaced; Re-released for DXP Platform.; DatasheetVersion: 21-Apr-1993; PackageReference: ENDIP40A; Publisher: Altium Limited; PackageDescription: DIP; 40 Rectangular Pins; Row Space 15.24 mm; Pitch 2.54 mm; ComponentLink1Description: Manufacturer Link; ComponentLink1URL: http://www.maxim-ic.com/; ComponentLink2Description: Datasheet; ComponentLink2URL: http://pdfserv.maxim-ic.com/en/ds/DS5000T.pdf; ComponentLink3Description: Discontinuation Notice; ComponentLink3URL: http://www.maxim-ic.com/qa/pdfs/non-obsolescence-letter.pdf
footprint ENDIP40A (DIP; 40 Rectangular Pins; Row Space 15.24 mm; Pitch 2.54 mm)
pins: 1 P1.0 (io), 2 P1.1 (io), 3 P1.2 (io), 4 P1.3 (io), 5 P1.4 (io), 6 P1.5 (io), 7 P1.6 (io), 8 P1.7 (io), 9 RST (in), 10 P3.0/RXD (io), 11 P3.1/TXD (io), 12 P3.2/~{INT}0 (io), 13 P3.3/~{INT}1 (io), 14 P3.4/T0 (io), 15 P3.5/T1 (io), 16 P3.6/~{WR} (io), 17 P3.7/~{RD} (io), 18 X2 (in), 19 X1 (in), 20 GND (power), 21 P2.0/A8 (io), 22 P2.1/A9 (io), 23 P2.2/A10 (io), 24 P2.3/A11 (io), 25 P2.4/A12 (io), 26 P2.5/A13 (io), 27 P2.6/A14 (io), 28 P2.7/A15 (io), 29 ~{PSEN} (io), 30 ALE (out), 31 ~{EA} (in), 32 P0.7/AD7 (io), 33 P0.6/AD6 (io), 34 P0.5/AD5 (io), 35 P0.4/AD4 (io), 36 P0.3/AD3 (io), 37 P0.2/AD2 (io), 38 P0.1/AD1 (io), 39 P0.0/AD0 (io), 40 VCC (power)

## DS5001FP-12
designator U?
128K Soft Microchip; Note: Pin number 73 is Not Connected (NC); Published: 13-Oct-2000; LatestRevisionDate: 13-Apr-2006; LatestRevisionNote: IPC-7351 Footprint Added.; DatasheetVersion: 28-May-1993; PackageVersion: Feb-1993; PackageReference: QFP80A; Publisher: Altium Limited; PackageDescription: 80-Pin Quad Flat Pack Rectangular 0.8 mm Pitch; ComponentLink1Description: Manufacturer Link; ComponentLink1URL: http://www.maxim-ic.com/; ComponentLink2Description: Datasheet; ComponentLink2URL: http://pdfserv.maxim-ic.com/en/ds/DS5001FP.pdf; ComponentLink3Description: Discontinuation Notice; ComponentLink3URL: http://www.maxim-ic.com/qa/pdfs/non-obsolescence-letter.pdf
footprint QFP80A_N (QFP, 80-Leads, Body 20x14mm, Pitch 0.8mm, IPC Medium Density)
footprint QFP80A_L (QFP, 80-Leads, Body 20x14mm, Pitch 0.8mm, IPC High Density)
footprint QFP80A_M (QFP, 80-Leads, Body 20x14mm, Pitch 0.8mm, IPC Low Density)
3D model DS5001-QFP80A (80-Pin Quad Flat Pack Rectangular 0.8 mm Pitch)
pins: 1 P0.4/AD4 (io), 2 ~{CE}2 (out), 3 ~{PE}2 (out), 4 BA9 (out), 5 P0.3/AD3 (io), 6 BA8 (out), 7 P0.2/AD2 (io), 8 ~{BA}13 (out), 9 P0.1/AD1 (io), 10 R/~{W} (out), 11 P0.0/AD0 (io), 12 VCCO (power), 13 VCC (power), 14 MSEL, 15 P1.0 (io), 16 BA14 (out), 17 P1.1 (io), 18 BA12 (out), 19 P1.2 (io), 20 BA7 (out), 21 P1.3 (io), 22 ~{PE}3 (out), 23 ~{PE}4 (out), 24 BA6 (out), 25 P1.4 (io), 26 BA5 (out), 27 P1.5 (io), 28 BA4 (out), 29 P1.6 (io), 30 BA3 (out), 31 P1.7 (io), 32 ~{PROG}, 33 BA2 (out), 34 RST (in), 35 BA1 (out), 36 P3.0/RXD (io), 37 BA0 (out), 38 P3.1/TXD (io), 39 P3.2/~{INT}0 (io), 40 P3.3/~{INT}1 (io), 41 P3.4/T0 (io), 42 ~{VRST} (io), 43 ~{PF} (out), 44 P3.5/T1 (io), 45 P3.6/~{WR} (io), 46 P3.7/~{RD} (io), 47 X2 (in), 48 X1 (in), 49 P2.0/A8 (io), 50 P2.1/A9 (io), 51 P2.2/A10 (io), 52 GND (power), 53 BA15 (out), 54 VLI (power), 55 BD0 (io), 56 P2.3/A11 (io), 57 BD1 (io), 58 P2.4/A12 (io), 59 BD2 (io), 60 P2.5/A13 (io), 61 BD3 (io), 62 ~{CE}4 (out), 63 ~{CE}3 (out), 64 P2.6/A14 (io), 65 BD4 (io), 66 P2.7/A15 (io), 67 BD5 (io), 68 ~{PSEN} (out), 69 BD6 (io), 70 ALE (out), 71 BD7 (io), 72 ~{CE1N} (in), 73 NC, 74 ~{CE}1 (out), 75 P0.7/AD7 (io), 76 BA10 (out), 77 P0.6/AD6 (io), 78 ~{PE}1 (out), 79 P0.5/AD5 (io), 80 BA11 (out)

## DS5001FP-16
designator U?
128K Soft Microchip; Note: Pin number 73 is Not Connected (NC); Published: 13-Oct-2000; LatestRevisionDate: 13-Apr-2006; LatestRevisionNote: IPC-7351 Footprint Added.; DatasheetVersion: 28-May-1993; PackageVersion: Feb-1993; PackageReference: QFP80A; Publisher: Altium Limited; PackageDescription: 80-Pin Quad Flat Pack Rectangular 0.8 mm Pitch; ComponentLink1Description: Manufacturer Link; ComponentLink1URL: http://www.maxim-ic.com/; ComponentLink2Description: Datasheet; ComponentLink2URL: http://pdfserv.maxim-ic.com/en/ds/DS5001FP.pdf; ComponentLink3Description: Discontinuation Notice; ComponentLink3URL: http://www.maxim-ic.com/qa/pdfs/non-obsolescence-letter.pdf
footprint QFP80A_N (QFP, 80-Leads, Body 20x14mm, Pitch 0.8mm, IPC Medium Density)
footprint QFP80A_L (QFP, 80-Leads, Body 20x14mm, Pitch 0.8mm, IPC High Density)
footprint QFP80A_M (QFP, 80-Leads, Body 20x14mm, Pitch 0.8mm, IPC Low Density)
3D model DS5001-QFP80A (80-Pin Quad Flat Pack Rectangular 0.8 mm Pitch)
pins: 1 P0.4/AD4 (io), 2 ~{CE}2 (out), 3 ~{PE}2 (out), 4 BA9 (out), 5 P0.3/AD3 (io), 6 BA8 (out), 7 P0.2/AD2 (io), 8 ~{BA}13 (out), 9 P0.1/AD1 (io), 10 R/~{W} (out), 11 P0.0/AD0 (io), 12 VCCO (power), 13 VCC (power), 14 MSEL, 15 P1.0 (io), 16 BA14 (out), 17 P1.1 (io), 18 BA12 (out), 19 P1.2 (io), 20 BA7 (out), 21 P1.3 (io), 22 ~{PE}3 (out), 23 ~{PE}4 (out), 24 BA6 (out), 25 P1.4 (io), 26 BA5 (out), 27 P1.5 (io), 28 BA4 (out), 29 P1.6 (io), 30 BA3 (out), 31 P1.7 (io), 32 ~{PROG}, 33 BA2 (out), 34 RST (in), 35 BA1 (out), 36 P3.0/RXD (io), 37 BA0 (out), 38 P3.1/TXD (io), 39 P3.2/~{INT}0 (io), 40 P3.3/~{INT}1 (io), 41 P3.4/T0 (io), 42 ~{VRST} (io), 43 ~{PF} (out), 44 P3.5/T1 (io), 45 P3.6/~{WR} (io), 46 P3.7/~{RD} (io), 47 X2 (in), 48 X1 (in), 49 P2.0/A8 (io), 50 P2.1/A9 (io), 51 P2.2/A10 (io), 52 GND (power), 53 BA15 (out), 54 VLI (power), 55 BD0 (io), 56 P2.3/A11 (io), 57 BD1 (io), 58 P2.4/A12 (io), 59 BD2 (io), 60 P2.5/A13 (io), 61 BD3 (io), 62 ~{CE}4 (out), 63 ~{CE}3 (out), 64 P2.6/A14 (io), 65 BD4 (io), 66 P2.7/A15 (io), 67 BD5 (io), 68 ~{PSEN} (out), 69 BD6 (io), 70 ALE (out), 71 BD7 (io), 72 ~{CE1N} (in), 73 NC, 74 ~{CE}1 (out), 75 P0.7/AD7 (io), 76 BA10 (out), 77 P0.6/AD6 (io), 78 ~{PE}1 (out), 79 P0.5/AD5 (io), 80 BA11 (out)

## DS5002FP-12
designator U?
Secure Micro; Note: Pin numbers 68 and 73 are Not Connected (NC); Published: 13-Oct-2000; LatestRevisionDate: 13-Apr-2006; LatestRevisionNote: IPC-7351 Footprint Added.; DatasheetVersion: 28-May-1993; PackageVersion: Feb-1993; PackageReference: QFP80A; Publisher: Altium Limited; PackageDescription: 80-Pin Quad Flat Pack Rectangular 0.8 mm Pitch; ComponentLink1Description: Manufacturer Link; ComponentLink1URL: http://www.maxim-ic.com/; ComponentLink2Description: Datasheet; ComponentLink2URL: http://pdfserv.maxim-ic.com/en/ds/DS5002FP.pdf; ComponentLink3Description: Discontinuation Notice; ComponentLink3URL: http://www.maxim-ic.com/qa/pdfs/non-obsolescence-letter.pdf
footprint QFP80A_N (QFP, 80-Leads, Body 20x14mm, Pitch 0.8mm, IPC Medium Density)
footprint QFP80A_L (QFP, 80-Leads, Body 20x14mm, Pitch 0.8mm, IPC High Density)
footprint QFP80A_M (QFP, 80-Leads, Body 20x14mm, Pitch 0.8mm, IPC Low Density)
3D model DS5002-QFP80A (80-Pin Quad Flat Pack Rectangular 0.8 mm Pitch)
pins: 1 P0.4/AD4 (io), 2 ~{CE}2 (out), 3 ~{PE}2 (out), 4 BA9 (out), 5 P0.3/AD3 (io), 6 BA8 (out), 7 P0.2/AD2 (io), 8 ~{BA}13 (out), 9 P0.1/AD1 (io), 10 R/~{W} (out), 11 P0.0/AD0 (io), 12 VCCO (power), 13 VCC (power), 14 MSEL, 15 P1.0 (io), 16 BA14 (out), 17 P1.1 (io), 18 BA12 (out), 19 P1.2 (io), 20 BA7 (out), 21 P1.3 (io), 22 ~{PE}3 (out), 23 ~{PE}4 (out), 24 BA6 (out), 25 P1.4 (io), 26 BA5 (out), 27 P1.5 (io), 28 BA4 (out), 29 P1.6 (io), 30 BA3 (out), 31 P1.7 (io), 32 ~{PROG}, 33 BA2 (out), 34 RST (in), 35 BA1 (out), 36 P3.0/RXD (io), 37 BA0 (out), 38 P3.1/TXD (io), 39 P3.2/~{INT}0 (io), 40 P3.3/~{INT}1 (io), 41 P3.4/T0 (io), 42 ~{VRST} (io), 43 ~{PF} (out), 44 P3.5/T1 (io), 45 P3.6/~{WR} (io), 46 P3.7/~{RD} (io), 47 X2 (in), 48 X1 (in), 49 P2.0/A8 (io), 50 P2.1/A9 (io), 51 P2.2/A10 (io), 52 GND (power), 53 SDI (in), 54 VLI (power), 55 BD0 (io), 56 P2.3/A11 (io), 57 BD1 (io), 58 P2.4/A12 (io), 59 BD2 (io), 60 P2.5/A13 (io), 61 BD3 (io), 62 ~{CE}4 (out), 63 ~{CE}3 (out), 64 P2.6/A14 (io), 65 BD4 (io), 66 P2.7/A15 (io), 67 BD5 (io), 68 NC, 69 BD6 (io), 70 ALE (out), 71 BD7 (io), 72 ~{CE1N} (in), 73 NC, 74 ~{CE}1 (out), 75 P0.7/AD7 (io), 76 BA10 (out), 77 P0.6/AD6 (io), 78 ~{PE}1 (out), 79 P0.5/AD5 (io), 80 BA11 (out)